# EAGLE library part IR2108PBF (library International_Rectifier_By_element14_Batch_1)
HALF BRIDGE DRIVER
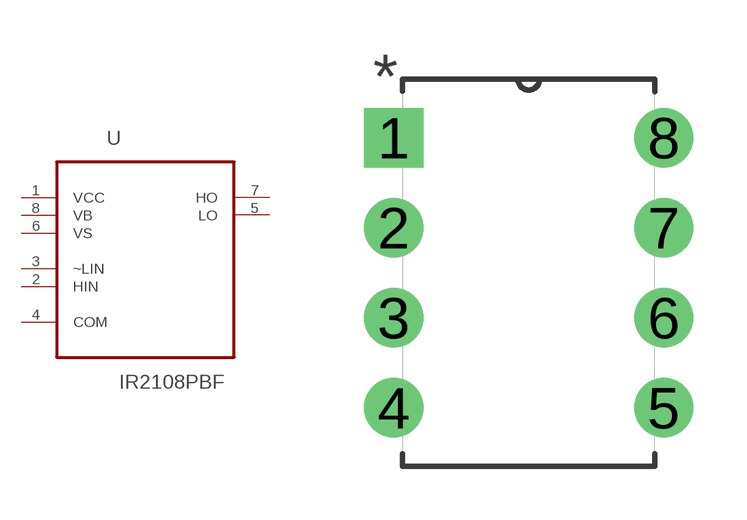
[diagram p39: symbol with the pads of DIP254P762X533-8; footprint DIP254P762X533-8]

Designator prefix U

## IR2108PBF (MPN: IR2108PBF; OC_FARNELL: -; OC_NEWARK: 19K8409; PACKAGE: PDIP; SUPPLIER: INTERNATIONAL RECTIFIER)  [DIP254P762X533-8]
1  VCC  pwr
2  HIN  in
3  ~LIN  in
4  COM  pas
5  LO  out
6  VS  pwr
7  HO  out
8  VB  pwr

## Footprint DIP254P762X533-8 (pad centres in mm)
drill 1.118 square: 1 -7.62,7.62
drill 1.118: 2 -7.62,5.08; 3 -7.62,2.54; 4 -7.62,0; 5 0,0; 6 0,2.54; 7 0,5.08; 8 0,7.62